# Altium schematic symbol library SchematicLib.SchLib: 23 symbols
Pins are listed as number, name and electrical type; pins without a type are passive.

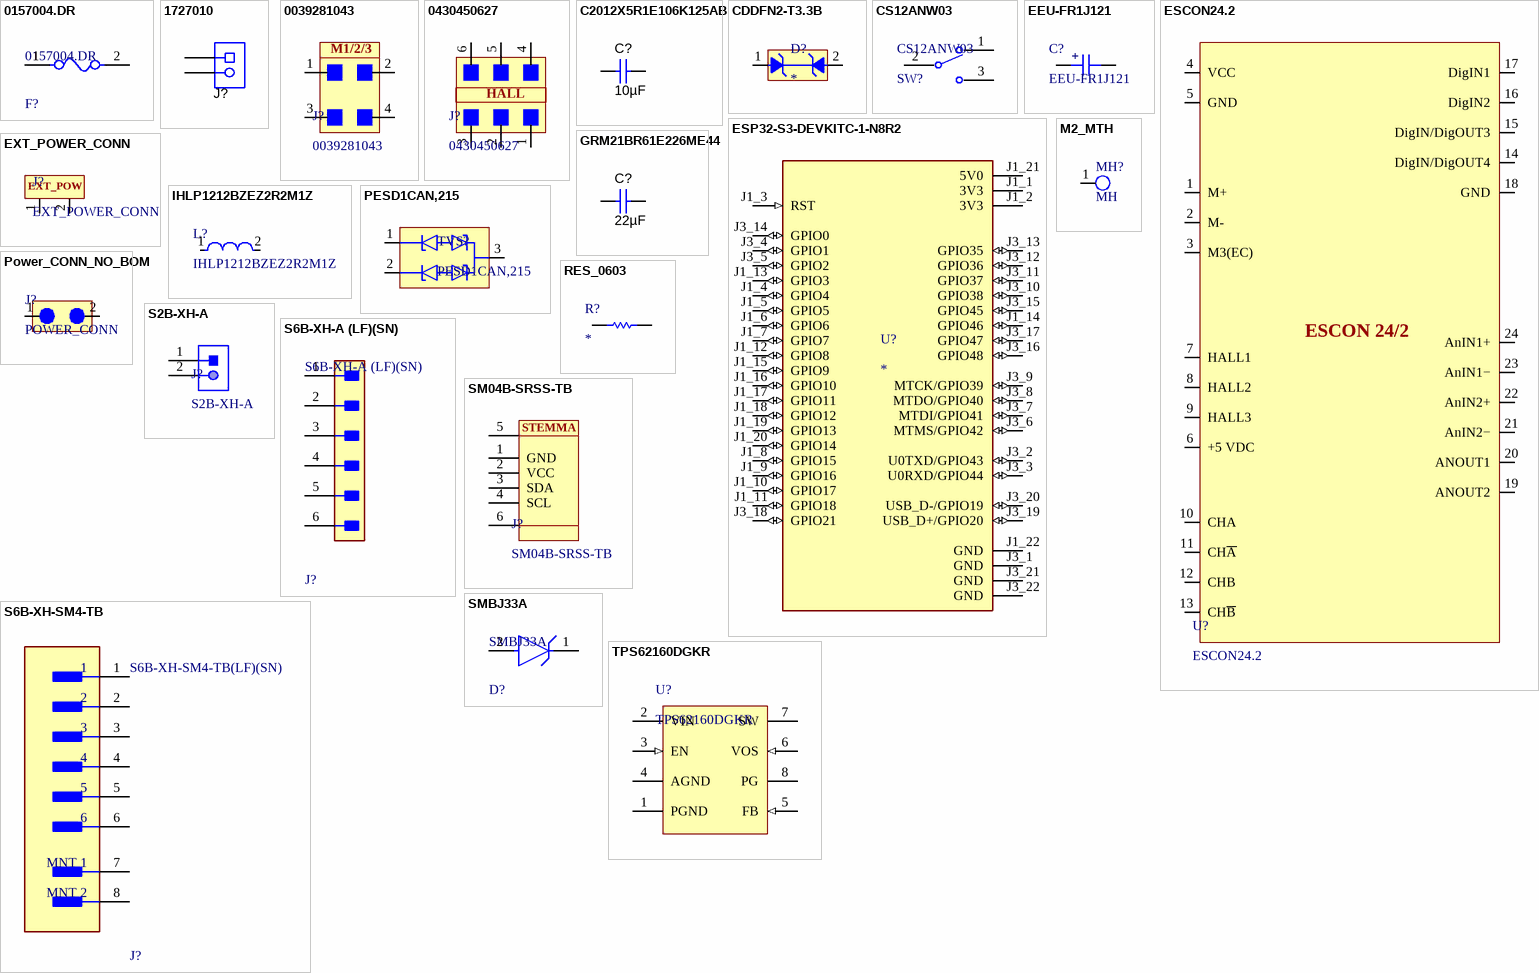
[diagram p0: symbols 0157004.DR to TPS62160DGKR]

## 0157004.DR
designator F?
FUSE, 4 A 125 V 125 V Fuse Board Mount (Cartridge Style Excluded) Requires Holder, Surface Mount 2-SMD, Square End Block with Clip; Voltage Rating (DC): 125V; DC Cold Resistance: 16.3mR; Current Rating: 4A; Approvals: cULus; Lead Free: Lead Free; Package Quantity: 1500; Width: 0.146inch; Case/Package: SMD/SMT; Height: 0.154inch; Fuse Type: Board Mount (Cartridge Style Excluded); Max Operating Temperature: 125°C; REACH SVHC: No SVHC; Depth: 3.7mm; Housing Material: Ceramic; Fuse Current: 4A; Length: 6.5mm; Voltage Rating (AC): 125V; Packaging: Tape and Reel; Min Operating Temperature: -55°C; Mount: Surface Mount
footprint NANO2
pins: 1, 2

## 1727010
designator J?  (value not drawn)
Conn Term Block, 2POS, 3.81mm, TH; Manufacturer: Phoenix Contact; SymbolCreator: a0412235; Value: 2x1; CompType: Terminal Block; U/M: EA; SymbolVersion: 2013-09-04; PartNumber: 1727010; PackageReference: 2POS Terminal Block; RoHS: Y; MountType: TH; ComponentLink1Description: Datasheet Link; ComponentLink1URL: http://eshop.phoenixcontact.com/phoenix/pdf.do?UID=1727010&general=usen; Publisher: Texas Instruments; LatestRevisionDate: 2014-05-01; Supplier 1: Digi-Key; Supplier Part Number 1: 277-1947-ND
footprint PhoenixConact_1727010
pins: 1, 2

## 0039281043
designator J?
Molex Connector Header Through Hole 4 position 0.165" (4.20mm)
footprint 4.20mm Dual Row 4 Circuit CONN
pins: 1, 2, 3, 4
text: M1/2/3

## 0430450627
designator J?
Molex Connector Header Through Hole 6 position 0.118" (3.00mm)
footprint 3.00MM DUAL ROW 6 Circuit CONN
pins: 1, 2, 3, 4, 5, 6
text: HALL

## C2012X5R1E106K125AB
designator C?  ValueDisplayed: 10µF  (hidden comment: C2012X5R1E106K125AB)
CAP, CERM, 10uF, 25V, +/-10%, X5R, 0805; Manufacturer: TDK; Polarized: N; CompType: Capacitor; U/M: EA; Cap_F: 0.00001; Tolerance_%: 10; Value1: Unknown; VDC_V: 25; TaMin_C: -55; TaMax_C: 85; Cap_Case: 0805; SymbolVersion: 2008-07-09; Value: 10uF; PartNumber: C2012X5R1E106K125AB; PackageReference: 0805; RoHS: Y; Value2: 25V; MountType: SMT; Technology: Ceramic; TempCo: X5R; Published: 2008-06-19; Publisher: Texas Instruments; LatestRevisionDate: 2014-06-25; ComponentLink1Description: Datasheet link; ComponentLink1URL: http://www.tdk.com/pdf/TDKMLCCCapRange.pdf; Supplier 1: Digi-Key; Supplier Part Number 1: 445-5984-1-ND
footprint CAP_0805
pins: 1, 2

## CDDFN2-T3.3B
designator D?
8V Clamp 5A (8/20Âµs) Ipp Tvs Diode Surface Mount 2-DFN (1x0.6); MF: Bourns; MP: CDDFN2-T3.3B; Check_prices: https://www.snapeda.com/parts/CDDFN2-T3.3B/Bourns/view-part/510185/?ref=eda; Availability: Good; Price: None; SnapEDA_Link: https://www.snapeda.com/parts/CDDFN2-T3.3B/Bourns/view-part/510185/?ref=snap; Value: *; Package: XDFN-2 Bourns; Purchase-URL: https://pricing.snapeda.com/search/part/CDDFN2-T3.3B/?ref=eda
footprint D_0402 (DFN, 2-Leads, Body 0.60x1.00mm, Pitch 0.65mm, IPC Medium Density)
pins: 1, 2

## CS12ANW03
designator CS12ANW03, comment SW?
footprint SPDT_SW
pins: 1, 2 2(COM), 3

## EEU-FR1J121
designator C?
CAP, ELEC, 120 µF 63 V Aluminum Electrolytic Capacitors Radial, Can 8000 Hrs @ 105°C
footprint CAP_THT_RAD_5mm
pins: 1, 2
text: +

## ESCON24.2
designator U?
ESCON24.2 Motor Controller Module
footprint ESCON24.2
pins: 1 M+, 2 M-, 3 M3(EC), 4 VCC, 5 GND, 6 +5 VDC, 7 HALL1, 8 HALL2, 9 HALL3, 10 CHA, 11 CH~{A}, 12 CHB, 13 CH~{B}, 14 DigIN/DigOUT4, 15 DigIN/DigOUT3, 16 DigIN2, 17 DigIN1, 18 GND, 19 ANOUT2, 20 ANOUT1, 21 AnIN2−, 22 AnIN2+, 23 AnIN1−, 24 AnIN1+
text: ESCON 24/2

## ESP32-S3-DEVKITC-1-N8R2
designator U?
WiFi Development Tools - 802.11 (Engineering Samples Only) ESP32-S3 General-Purpose Development Board, ESP32-S3-WROOM-1-N8R2, with Pin Header; MF: Espressif Systems; MP: ESP32-S3-DEVKITC-1-N8R2; SnapEDA_Link: https://www.snapeda.com/parts/ESP32-S3-DEVKITC-1-N8R2/Espressif+Systems/view-part/?ref=snap; Package: None; Value: *; Check_prices: https://www.snapeda.com/parts/ESP32-S3-DEVKITC-1-N8R2/Espressif+Systems/view-part/?ref=eda
footprint XCVR_ESP32-S3-DEVKITC-1-N8R2
pins: J1_1 3V3 (power), J1_2 3V3 (power), J1_3 RST (in), J1_4 GPIO4 (io), J1_5 GPIO5 (io), J1_6 GPIO6 (io), J1_7 GPIO7 (io), J1_8 GPIO15 (io), J1_9 GPIO16 (io), J1_10 GPIO17 (io), J1_11 GPIO18 (io), J1_12 GPIO8 (io), J1_13 GPIO3 (io), J1_14 GPIO46 (io), J1_15 GPIO9 (io), J1_16 GPIO10 (io), J1_17 GPIO11 (io), J1_18 GPIO12 (io), J1_19 GPIO13 (io), J1_20 GPIO14 (io), J1_21 5V0 (power), J1_22 GND (power), J3_1 GND (power), J3_2 U0TXD/GPIO43 (io), J3_3 U0RXD/GPIO44 (io), J3_4 GPIO1 (io), J3_5 GPIO2 (io), J3_6 MTMS/GPIO42 (io), J3_7 MTDI/GPIO41 (io), J3_8 MTDO/GPIO40 (io), J3_9 MTCK/GPIO39 (io), J3_10 GPIO38 (io), J3_11 GPIO37 (io), J3_12 GPIO36 (io), J3_13 GPIO35 (io), J3_14 GPIO0 (io), J3_15 GPIO45 (io), J3_16 GPIO48 (io), J3_17 GPIO47 (io), J3_18 GPIO21 (io), J3_19 USB_D+/GPIO20 (io), J3_20 USB_D-/GPIO19 (io), J3_21 GND (power), J3_22 GND (power)

## EXT_POWER_CONN
designator J?  (no BOM)
footprint POWER
pins: 1, 2
text: EXT_POW

## GRM21BR61E226ME44
designator C?  ValueDisplayed: 22µF  (hidden comment: GRM21BR61E226ME44)
CAP, CERM, 22 µF, 25 V, +/- 20%, X5R, 0805; Manufacturer: MuRata; CompType: Capacitor; Value: 22uF; Tolerance_%: 20; TaMax_C: 85; Cap_Case: 0805; PartNumber: GRM21BR61E226ME44; PackageReference: 0805; MountType: SMT; TempCo: X5R; Supplier 1: DigiKey; Supplier Part Number 1: 490-14661-1-ND
footprint CAP_0805
pins: 1, 2

## IHLP1212BZEZ2R2M1Z
designator L?
footprint IND_1212
pins: 1, 2

## M2_MTH
designator MH?, comment MH  (no BOM)
footprint M2_MTH
pins: 1

## PESD1CAN,215
designator TVS?
70V Clamp 3A (8/20Âµs) Ipp Tvs Diode Surface Mount TO-236AB; MF: Nexperia USA Inc.; SnapEDA_Link: https://www.snapeda.com/parts/PESD1CAN,215/Nexperia/view-part/?ref=snap; Package: SC-59 Nexperia USA; Value: *; MP: PESD1CAN,215; Check_prices: https://www.snapeda.com/parts/PESD1CAN,215/Nexperia/view-part/?ref=eda
footprint SOT23
pins: 1 C1, 2 C2, 3 CC

## Power_CONN_NO_BOM
designator J?, comment POWER_CONN
footprint POWER
pins: 1 +10V, 2 GND

## RES_0603
designator R?
footprint RES_0603
pins: 1, 2

## S2B-XH-A
designator J?
footprint JST-S2B-XH-A(LF)(SN)_V (Header, 2-Leads, Body 7.4x11.5mm, Pitch 2.5mm)
pins: 1, 2

## S6B-XH-A (LF)(SN)
designator J?
CONN HEADER THT R/A 6POS 2.5MM; Number of Contacts: 6; Contact Resistance: 20mR; Max Current Rating: 3A; Max Voltage Rating (AC): 250V; Gender: Male; Insulation Resistance: 1GR; Wire/Cable Gauge: 22AWG; Fastening Type: Detent; Lead Pitch: 2.5mm; Flammability Rating: UL94 V-0; Contact Finish - Mating: TIN; Housing Material: Polyamide; Length: 17.4mm; Termination: Solder; Contact Type: Male Pin; Number of Positions: 6; Mount: Through Hole; Orientation: Right Angle; Voltage Rating (AC): 250V; Contact Shape: Square; Lead Free: Lead Free; Insulation Material: Nylon; Insulation Color: Natural; Contact Plating: Tin; Connector Type: Header; Housing Color: White; Color: Natural; Package Quantity: 500; Contact Material: Brass; Packaging: Bulk; Pitch: 2.5mm; Series: XH; Number of Rows: 1; Min Operating Temperature: -25°C; Voltage Rating: 250V; REACH SVHC: No SVHC; Current Rating: 3A; Depth: 11.5mm; Max Operating Temperature: 85°C
footprint JST-XH-6PIN_RA
pins: 1, 2, 3, 4, 5, 6

## S6B-XH-SM4-TB
designator J?, comment S6B-XH-SM4-TB(LF)(SN)
CONN HEADER SMD R/A 6POS 2.5MM; Gender: Male; Number of Positions: 6; Max Current Rating: 3A; Voltage Rating: 250V; Contact Resistance: 20mR; Flammability Rating: UL94 V-0; Orientation: Right Angle; Contact Finish - Mating: TIN; Packaging: Tape and Reel; Termination: Solder; Pitch: 2.5mm; Housing Color: Beige; Insulation Material: Nylon; Fastening Type: Detent; Housing Material: Polyamide; Package Quantity: 1; Mount: Surface Mount; Insulation Color: Natural; Series: XH; Depth: 7mm; Contact Shape: Square; Color: Natural; Max Voltage Rating (AC): 250V; Min Operating Temperature: -25°C; Number of Contacts: 6; Lead Free: Lead Free; Contact Material: Copper Alloy; Contact Type: Male Pin; Length: 20mm; Max Operating Temperature: 85°C; Connector Type: Header; Number of Rows: 1; REACH SVHC: No SVHC; Contact Plating: Copper
footprint S6B-XH-SM4-TB
pins: 1, 2, 3, 4, 5, 6, 7 MNT 1, 8 MNT 2

## SM04B-SRSS-TB
designator J?
footprint 4PIN_STEMMA
pins: 1 GND, 2 VCC, 3 SDA, 4 SCL, 5, 6
text: STEMMA

## SMBJ33A
designator D?
TVS DIODE 33V 53.3V DO214AA; Manufacturer: Littelfuse Inc; Max Junction Temp: +150°C; Number Of Channels: 1; Breakdown Voltage: 36.7V; Peak Pulse Power: 600W; Direction: Unidirectional; Peak Pulse Current: 11.3A; Lead Free: Yes; Height: 2.61mm; Temperature Range Low: -65°C; ComponentLink2URL: https://www.littelfuse.com/~/media/electronics/datasheets/tvs_diodes/littelfuse_tvs_diode_smbj_datasheet.pdf.pdf; Manufacturer Part Number: SMBJ33A; Clamping Voltage: 53.3V; Device Class L1: Circuit Protection; Octopart: https://octopart.com/smbj33a-littelfuse-350829; Device Class L2: TVS Diodes; Digikey Description: TVS DIODE 33V 53.3V DO214AA; Automotive: No; Temperature Range High: +150°C; Package: SMBJ; ComponentLink2Description: Datasheet; Mouser Description: TVS DIODE 33V 53.3V DO214AA; Reverse Standoff Voltage: 33V; Category: Diode; Device Class L3: unset; Temperature: -65°C to +150°C; RoHS: TRUE
footprint DO-214AA, SMB
pins: 1 C, 2 A

## TPS62160DGKR
designator U?
Buck Step Down Regulator with 3 to 17 V Input and 0.9 to 6 V Output, -40 to 85 degC, 8-Pin VSSOP (DGK), Green (RoHS & no Sb/Br); Manufacturer: Texas Instruments; Rating: Catalog; Iq(Typ)(mA): 0.017; Switch Current Limit(Typ)(A): 1.8; Vout(Min)(V): 0.9; Vin(Max)(V): 17; Vout(Max)(V): 6; Duty Cycle(Max)(%): 100; Regulated Outputs(#): 1; Synchronous Rectification: TRUE; SubFamily: Step-Down Regulator; Vin(Min)(V): 3; Code_JEDEC: MO-187-AA; PartNumber: TPS62160DGKR; DatasheetVersion: SLVSAM2A; ComponentLink1URL: http://www.ti.com/general/docs/lit/getliterature.tsp?genericPartNumber=TPS62160&fileType=pdf; Mounting Technology: Surface Mount; PackageDescription: 8-Pin Thin Small Outline Package 3 x 3 mm Body ,0.65 mm Pitch; PackageVersion: revE, May-2006; ComponentLink3URL: Samples URL:http://www.ti.com/product/tps62160#samples; ComponentLink2Description: Package Specification; ComponentLink3Description: URL Link1; Eco-Plan: Green (RoHS & no Sb/Br); ComponentLink1Description: Datasheet; ComponentLink2URL: http://www.ti.com/lit/ml/mpds028d/mpds028d.pdf; Iout(Max)(A): 1; PackageReference: DGK0008A; Topology: Buck
footprint DGK0008A_M (TSOP, 8-Leads, Body 3.1x3.1mm, Pitch 0.65mm, IPC Low Density)
pins: 1 PGND (power) "Power ground", 2 VIN (power) "Supply voltage", 3 EN (in) "Enable input (High = enabled, Low = disabled)", 4 AGND (power) "Analog Ground", 5 FB (in) "Voltage feedback of adjustable version. Connect resistive voltage divider to this pin. It is recommended to connect FB to AGND on fixed output voltage versions for improved thermal performance.", 6 VOS (in) "Output voltage sense pin and connection for the control loop circuitry.", 7 SW (power) "Switch node, which is connected to the internal MOSFET switches. Connect inductor between SW and output capacitor", 8 PG (hiz) "Output power good (High = VOUT ready, Low = VOUT below nominal regulation) ; open drain (requires pull-up resistor; goes high impedance, when device is switched off)"